# Altium footprint library NodeMcu.PcbLib: 3 footprints
Each footprint in its own frame and in the unit in brackets; x right, y up, seen from the top. Pads: shape width x height; smd on the part's side, far side on the other; paste and mask are expansions set on the pad; w line width, h text height; cw(c..) or ccw(c..) is an arc to the next point about the centre after c.
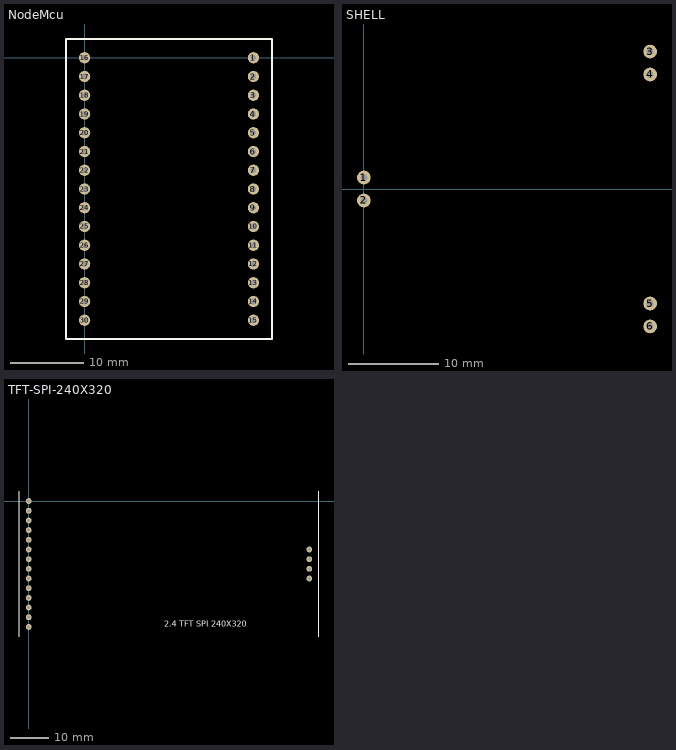
[diagram p0: the footprints below, top view; thin cyan lines are the x and y axes]

## NodeMcu [mil] "5v"
pads (30):
  round 60 hole 30: 1(900,0) 2(900,-100) 3(900,-200) 4(900,-300) 5(900,-400) 6(900,-500) 7(900,-600) 8(900,-700) 9(900,-800) 10(900,-900) 11(900,-1000) 12(900,-1100) 13(900,-1200) 14(900,-1300) 15(900,-1400) 16(0,0) 17(0,-100) 18(0,-200) 19(0,-300) 20(0,-400) 21(0,-500) 22(0,-600) 23(0,-700) 24(0,-800) 25(0,-900) 26(0,-1000) 27(0,-1100) 28(0,-1200) 29(0,-1300) 30(0,-1400)
Top Overlay:
  lines w10: -100,-1500 -100,100 200,100 275,100 625,100 1000,100 1000,-1500 -100,-1500

## SHELL [mil]
pads (6):
  round 60 hole 30: 1(0,50) 2(0,-50) 3(1250,600) 4(1250,500) 5(1250,-500)
  round 60 hole 30 mask+4: 6(1250,-600)

## TFT-SPI-240X320 [mil]
pads (18):
  round 60 hole 30: 1(0,-1300) 2(0,-1200) 3(0,-1100) 4(0,-1000) 5(0,-900) 6(0,-800) 7(0,-700) 8(0,-600) 9(0,-500) 10(0,-400) 11(0,-300) 12(0,-200) 13(0,-100) 14(0,0) 15(2900,-500) 16(2900,-600) 17(2900,-700) 18(2900,-800)
Top Overlay:
  lines w10: -100,-1400 -100,100 ; 3000,-1400 3000,100
  text "2.4 TFT SPI 240X320" at 1400,-1300 h60